# EAGLE library part TEXAS_INSTRUMENTS_DRV8301DCAR (library Upverter Library)
Three-Phase Gate Driver With Dual Current Shunt Amplifiers and Buck Regulator
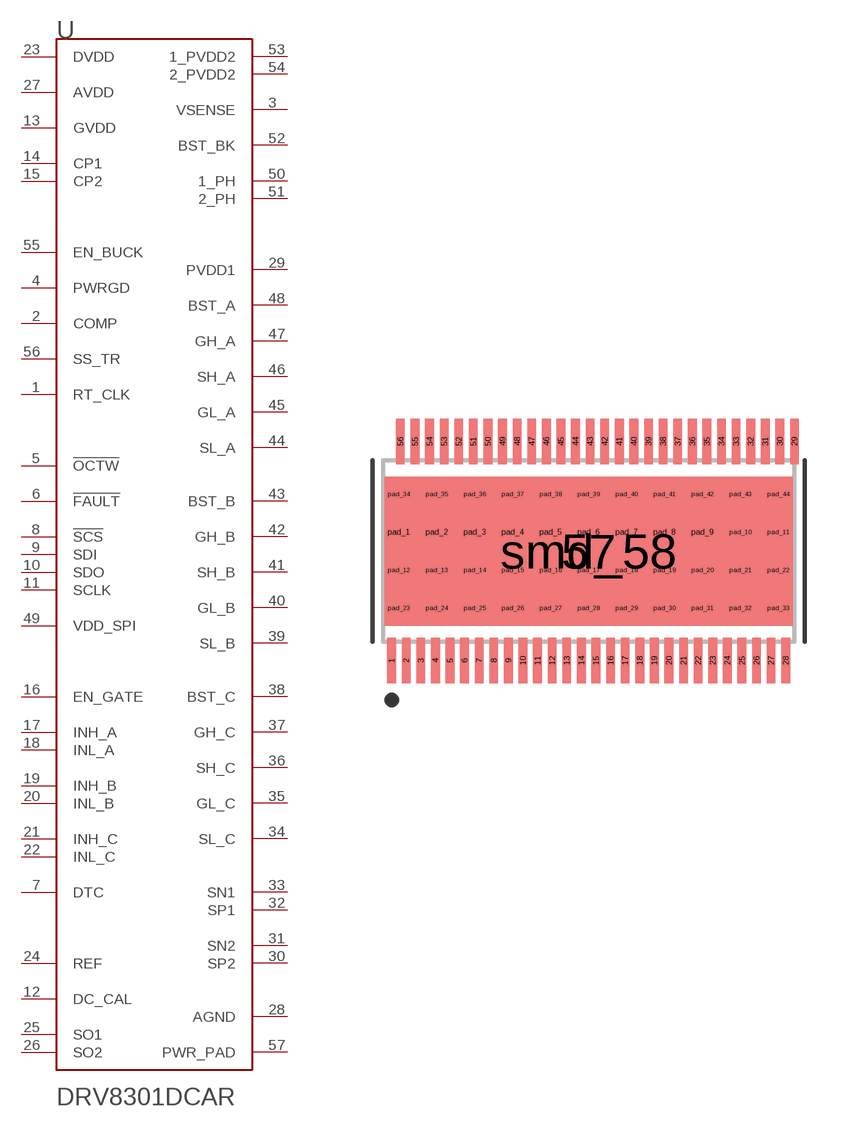
[diagram p0: symbol with the pads of TEXAS_INSTRUMENTS_DRV8301DCAR_0; footprint TEXAS_INSTRUMENTS_DRV8301DCAR_0]

Designator prefix U

## TEXAS_INSTRUMENTS_DRV8301DCARTEXAS_INSTRUMENTS_DRV8301DCAR_0_0 (MF: Texas Instruments; MPN: DRV8301DCAR; ambient_temperature_range_high: +125°C; ambient_temperature_range_low: -40°C; centroid_not_specified: No; datasheet: http://www.ti.com/lit/ds/symlink/drv8301.pdf; device_class_L1: Integrated Circuits (ICs); device_class_L2: Power Management ICs; device_class_L3: Gate Drivers; digikey_description: IC MOTOR CONTROLLER SPI 56HTSSOP; digikey_part_number: 296-29433-1-ND; fall_time: 25ns; height: 1.2mm; lead_free: yes; max_junction_temp: +150°C; max_supply_voltage: 60V; mfg_package_ident: DCA0056A; mfg_package_ident_date: 0; mfg_package_ident_rev: 0; min_supply_voltage: 6V; mouser_description: Motor / Motion / Ignition Controllers & Drivers 3-PHASE BRUSHLESS MOTOR PRE-DRIVER; mouser_part_number: 595-DRV8301DCAR; nominal_supply_current: 15mA; number_of_drivers: 3; number_of_outputs: 6; output_current: 1.7A; output_voltage: 11.5V; package: HTSSOP56; pin_0_0_36_inside_edge: clock; pin_0_0_37_inside_edge: clock; prefix: U; propagation_delay: 5ns; rise_time: 25ns; rohs: yes; standoff_height: 0.05mm; temperature_range_high: +125°C; temperature_range_low: -40°C; verification_version: 0.0.0.1)  [TEXAS_INSTRUMENTS_DRV8301DCAR_0]
1  RT_CLK  in
2  COMP  out
3  VSENSE  in
4  PWRGD  out
5  !OCTW!  out
6  !FAULT!  out
7  DTC  in
8  !SCS!  in
9  SDI  in
10  SDO  out
11  SCLK  in
12  DC_CAL  in
13  GVDD  pwr
14  CP1  pwr
15  CP2  pwr
16  EN_GATE  in
17  INH_A  in
18  INL_A  in
19  INH_B  in
20  INL_B  in
21  INH_C  in
22  INL_C  in
23  DVDD  pwr
24  REF  in
25  SO1  out
26  SO2  out
27  AVDD  pwr
28  AGND  pwr
29  PVDD1  pwr
30  SP2  in
31  SN2  in
32  SP1  in
33  SN1  in
34  SL_C  in
35  GL_C  out
36  SH_C  in
37  GH_C  out
38  BST_C  pwr
39  SL_B  in
40  GL_B  out
41  SH_B  in
42  GH_B  out
43  BST_B  pwr
44  SL_A  in
45  GL_A  out
46  SH_A  in
47  GH_A  out
48  BST_A  pwr
49  VDD_SPI  pwr
50  1_PH  out
51  2_PH  out
52  BST_BK  pwr
53  1_PVDD2  pwr
54  2_PVDD2  pwr
55  EN_BUCK  in
56  SS_TR  in
57  PWR_PAD  pwr

## Footprint TEXAS_INSTRUMENTS_DRV8301DCAR_0 (pad centres in mm)
Three-Phase Gate Driver With Dual Current Shunt Amplifiers and Buck Regulator
smd 0.3 x 1.55: 1 -6.75,-3.75; 2 -6.25,-3.75; 3 -5.75,-3.75; 4 -5.25,-3.75; 5 -4.75,-3.75; 6 -4.25,-3.75; 7 -3.75,-3.75; 8 -3.25,-3.75; 9 -2.75,-3.75; 10 -2.25,-3.75; 11 -1.75,-3.75; 12 -1.25,-3.75; 13 -0.75,-3.75; 14 -0.25,-3.75; 15 0.25,-3.75; 16 0.75,-3.75; 17 1.25,-3.75; 18 1.75,-3.75; 19 2.25,-3.75; 20 2.75,-3.75; 21 3.25,-3.75; 22 3.75,-3.75; 23 4.25,-3.75; 24 4.75,-3.75; 25 5.25,-3.75; 26 5.75,-3.75; 27 6.25,-3.75; 28 6.75,-3.75; 29 7.05,3.75; 30 6.55,3.75; 31 6.05,3.75; 32 5.55,3.75; 33 5.05,3.75; 34 4.55,3.75; 35 4.05,3.75; 36 3.55,3.75; 37 3.05,3.75; 38 2.55,3.75; 39 2.05,3.75; 40 1.55,3.75; 41 1.05,3.75; 42 0.55,3.75; 43 0.05,3.75; 44 -0.45,3.75; 45 -0.95,3.75; 46 -1.45,3.75; 47 -1.95,3.75; 48 -2.45,3.75; 49 -2.95,3.75; 50 -3.45,3.75; 51 -3.95,3.75; 52 -4.45,3.75; 53 -4.95,3.75; 54 -5.45,3.75; 55 -5.95,3.75; 56 -6.45,3.75
smd 14 x 5.1: 57 0,0
drill 0.2 pad 0.5 round: pad_1 -6.5,0.65; pad_2 -5.2,0.65; pad_3 -3.9,0.65; pad_4 -2.6,0.65; pad_5 -1.3,0.65; pad_6 0,0.65; pad_7 1.3,0.65; pad_8 2.6,0.65; pad_9 3.9,0.65; pad_10 5.2,0.65; pad_11 6.5,0.65; pad_12 -6.5,-0.65; pad_13 -5.2,-0.65; pad_14 -3.9,-0.65; pad_15 -2.6,-0.65; pad_16 -1.3,-0.65; pad_17 0,-0.65; pad_18 1.3,-0.65; pad_19 2.6,-0.65; pad_20 3.9,-0.65; pad_21 5.2,-0.65; pad_22 6.5,-0.65; pad_23 -6.5,-1.95; pad_24 -5.2,-1.95; pad_25 -3.9,-1.95; pad_26 -2.6,-1.95; pad_27 -1.3,-1.95; pad_28 0,-1.95; pad_29 1.3,-1.95; pad_30 2.6,-1.95; pad_31 3.9,-1.95; pad_32 5.2,-1.95; pad_33 6.5,-1.95; pad_34 -6.5,1.95; pad_35 -5.2,1.95; pad_36 -3.9,1.95; pad_37 -2.6,1.95; pad_38 -1.3,1.95; pad_39 0,1.95; pad_40 1.3,1.95; pad_41 2.6,1.95; pad_42 3.9,1.95; pad_43 5.2,1.95; pad_44 6.5,1.95
smd 6.35 x 3.61: smd_58 0,0